# Altium footprint library 9774025360.PcbLib: 1 footprints
Each footprint in its own frame and in the unit in brackets; x right, y up, seen from the top. Pads: shape width x height; smd on the part's side, far side on the other; paste and mask are expansions set on the pad; w line width, h text height; cw(c..) or ccw(c..) is an arc to the next point about the centre after c.
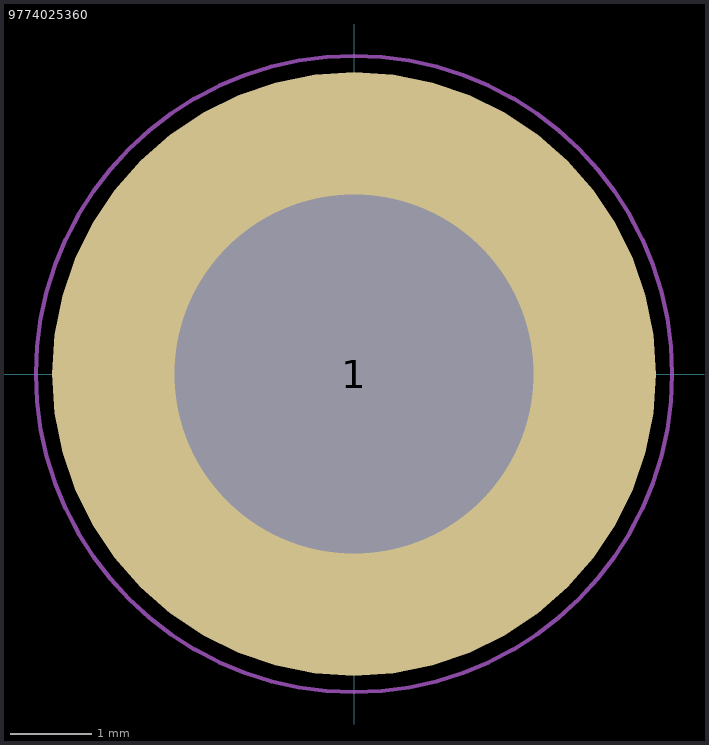
[diagram p0: the footprint, top view; thin cyan lines are the x and y axes]

## 9774025360 [mm]
pads (1):
  round 7.4 / inner rrect50% 1.4x1.2 / far side round 4.7 hole 4.4 mask+0.05: 1(0,0)
Top Paste:
  region: 2.173,-0.567 2.13,-0.707 2.018,-0.978 1.872,-1.232 1.693,-1.464 1.486,-1.672 1.254,-1.85 1,-1.996 0.729,-2.109 0.589,-2.151 0.95,-3.499 1.18,-3.437 1.621,-3.255 2.033,-3.016 2.411,-2.726 2.748,-2.389 3.038,-2.011 3.276,-1.599 3.459,-1.158 3.52,-0.928
  region: -0.57,-2.161 -0.711,-2.118 -0.981,-2.006 -1.235,-1.86 -1.468,-1.681 -1.675,-1.474 -1.853,-1.242 -2,-0.988 -2.112,-0.717 -2.154,-0.577 -3.502,-0.938 -3.44,-1.168 -3.258,-1.608 -3.02,-2.021 -2.729,-2.399 -2.393,-2.736 -2.014,-3.026 -1.602,-3.264 -1.162,-3.447 -0.931,-3.508
  region: -2.154,0.573 -2.112,0.713 -2,0.984 -1.853,1.238 -1.675,1.47 -1.468,1.677 -1.235,1.856 -0.981,2.002 -0.711,2.114 -0.57,2.157 -0.931,3.504 -1.162,3.443 -1.602,3.26 -2.014,3.022 -2.393,2.732 -2.729,2.395 -3.02,2.017 -3.258,1.604 -3.44,1.164 -3.502,0.934
  region: 0.58,2.164 0.72,2.121 0.991,2.009 1.244,1.862 1.477,1.684 1.684,1.477 1.862,1.244 2.009,0.991 2.121,0.72 2.164,0.58 3.511,0.941 3.449,1.171 3.267,1.611 3.029,2.024 2.739,2.402 2.402,2.739 2.024,3.029 1.611,3.267 1.171,3.449 0.941,3.511
Top Assembly:
  circle w0.05: c0,0 r3.9
Top Courtyard:
  circle w0.05: c0,0 r3.9
3D body "9774025360R_Download_STP_9774025360R_rev1 (1).stp": height 2.5, standoff -1.4, extent -3,-3 3,3